# Altium footprint library MF-100.PcbLib: 1 footprints
Each footprint in its own frame and in the unit in brackets; x right, y up, seen from the top. Pads: shape width x height; smd on the part's side, far side on the other; paste and mask are expansions set on the pad; w line width, h text height; cw(c..) or ccw(c..) is an arc to the next point about the centre after c.
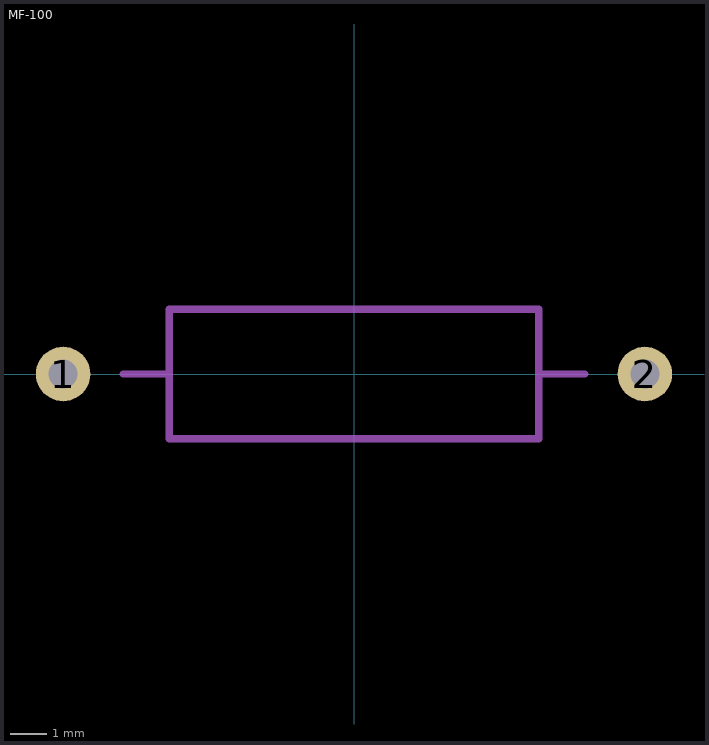
[diagram p0: the footprint, top view; thin cyan lines are the x and y axes]

## MF-100 [mm]
pads (2):
  round 1.5 hole 0.8: 1(-8.001,0) 2(8.001,0)
Mechanical 13:
  lines w0.2: -6.35,0 -5.08,0 ; 5.08,0 6.35,0 ; -5.08,-1.778 -5.08,1.778 5.08,1.778 5.08,-1.778 -5.08,-1.778
  text ".Designator" at -4.699,-0.508 h2.5
3D body: height 4.6, standoff -2.6, extent -8.255,-2.1 8.345,2.1